# Altium footprint library 191015 Integrated DED Equipment.PcbLib: 25 footprints (part 1 of 2)
Each footprint in its own frame and in the unit in brackets; x right, y up, seen from the top. Pads: shape width x height; smd on the part's side, far side on the other; paste and mask are expansions set on the pad; w line width, h text height; cw(c..) or ccw(c..) is an arc to the next point about the centre after c.
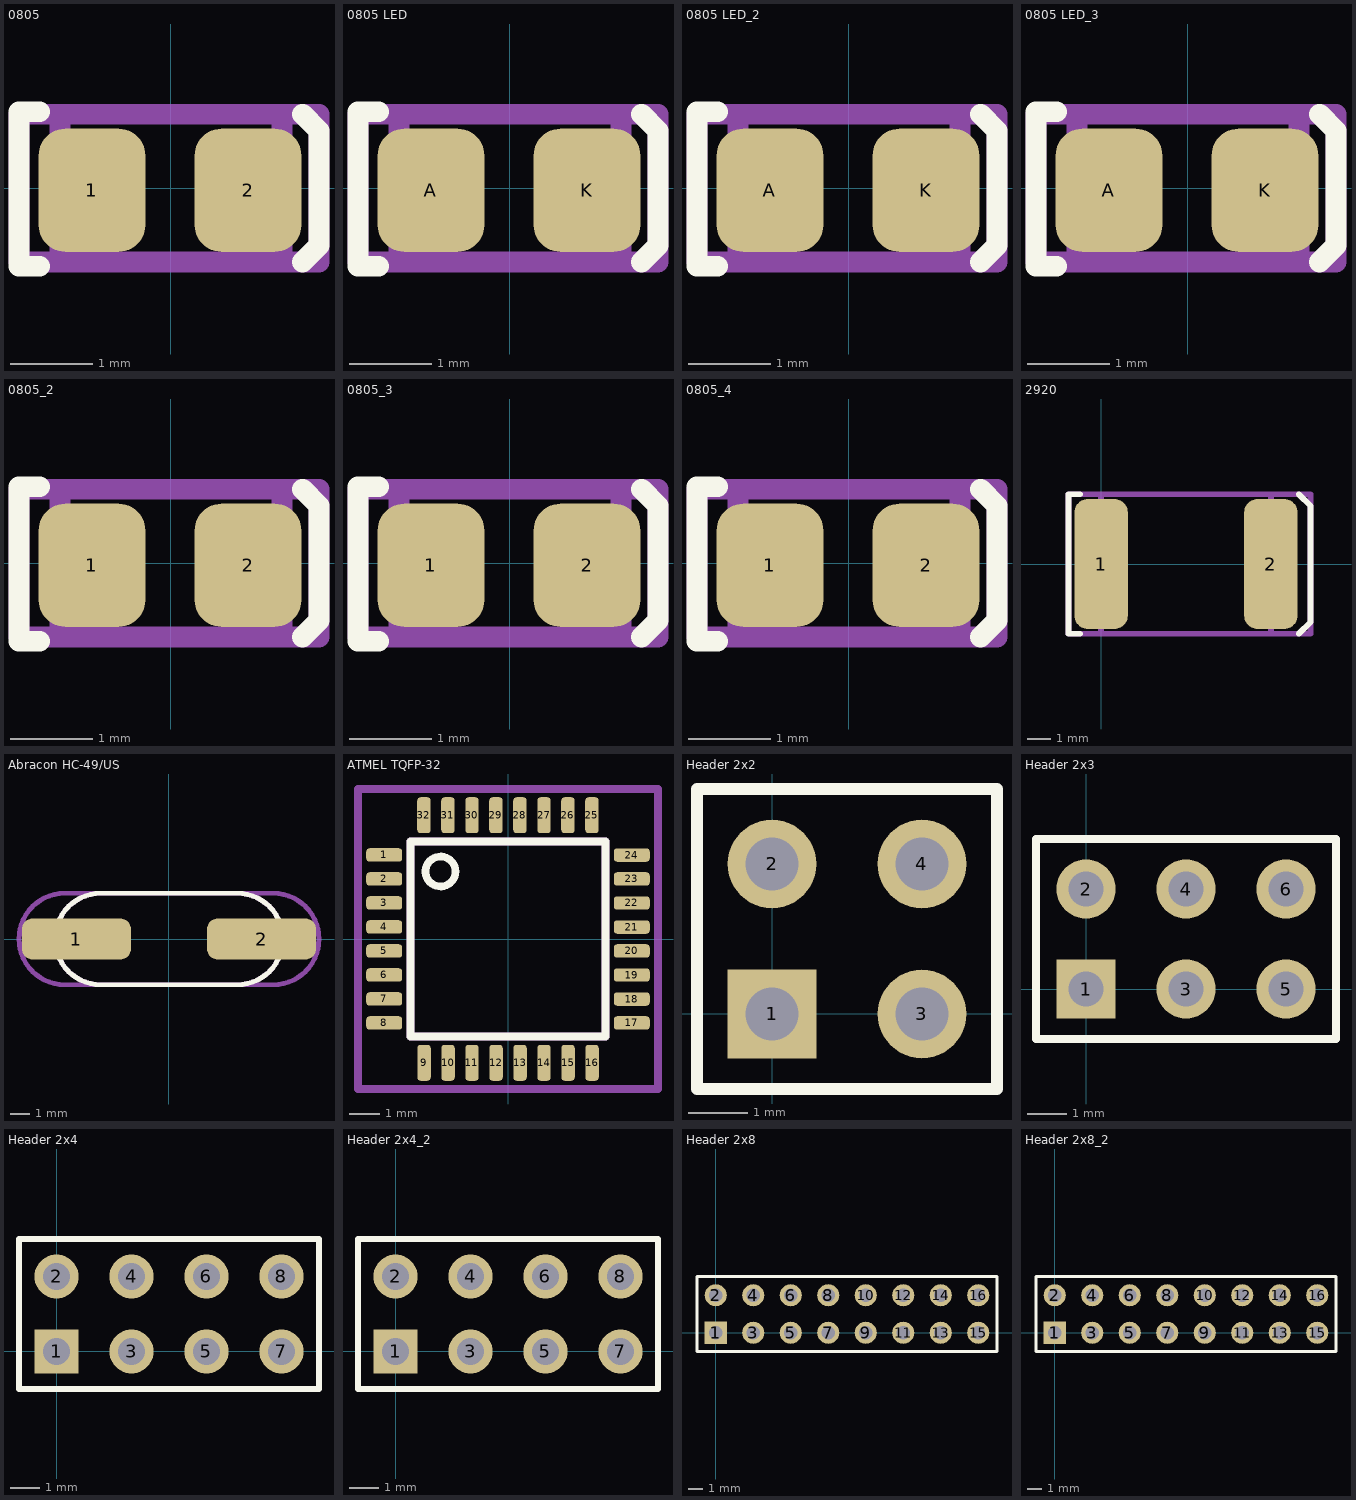
[diagram p0: the footprints below, top view; thin cyan lines are the x and y axes]

## 0805 [mm]
pads (2):
  rrect50% 1.3x1.5 smd: 1(-0.962,-0.026) 2(0.938,-0.026)
Top Overlay:
  lines w0.254: -1.6,-0.95 -1.85,-0.95 -1.85,0.929 -1.6,0.929 ; 1.6,-0.9 1.802,-0.698 1.802,0.698 1.6,0.9
Mechanical 13:
  lines w0.254: -1.35,-0.9 -1.35,0.9 1.35,0.9 1.35,-0.9 -1.35,-0.9
Mechanical 15:
  lines w0.254: -1.85,-0.9 1.8,-0.9 1.8,0.9 -1.85,0.9 -1.85,-0.9
3D body "0805.step": height 0.73, standoff -0.03, extent -1,-0.655 1,0.655

## 0805 LED [mm]
pads (2):
  rrect50% 1.3x1.5 smd: A(-0.962,-0.026) K(0.938,-0.026)
Top Overlay:
  lines w0.254: -1.6,-0.95 -1.85,-0.95 -1.85,0.929 -1.6,0.929 ; 1.6,-0.9 1.802,-0.698 1.802,0.698 1.6,0.9
Mechanical 13:
  lines w0.254: -1.35,-0.9 1.35,-0.9 1.35,0.9 -1.35,0.9 -1.35,-0.9
Mechanical 15:
  lines w0.254: -1.85,-0.9 -1.85,0.9 1.8,0.9 1.8,-0.9 -1.85,-0.9
3D body "LED SMD 0805.step": height 1, standoff 0, extent -1.1,-0.625 0.9,0.625

## 0805 LED_2 [mm]
pads (2):
  rrect50% 1.3x1.5 smd: A(-0.962,-0.026) K(0.938,-0.026)
Top Overlay:
  lines w0.254: -1.6,-0.95 -1.85,-0.95 -1.85,0.929 -1.6,0.929 ; 1.6,-0.9 1.802,-0.698 1.802,0.698 1.6,0.9
Mechanical 13:
  lines w0.254: -1.35,-0.9 -1.35,0.9 1.35,0.9 1.35,-0.9 -1.35,-0.9
Mechanical 15:
  lines w0.254: -1.85,-0.9 1.8,-0.9 1.8,0.9 -1.85,0.9 -1.85,-0.9
3D body "LED SMD 0805.step": height 1, standoff 0, extent -1.1,-0.625 0.9,0.625

## 0805 LED_3 [mm]
pads (2):
  rrect50% 1.3x1.5 smd: A(-0.962,-0.026) K(0.938,-0.026)
Top Overlay:
  lines w0.254: -1.6,-0.95 -1.85,-0.95 -1.85,0.929 -1.6,0.929 ; 1.6,-0.9 1.802,-0.698 1.802,0.698 1.6,0.9
Mechanical 13:
  lines w0.254: -1.35,-0.9 -1.35,0.9 1.35,0.9 1.35,-0.9 -1.35,-0.9
Mechanical 15:
  lines w0.254: -1.85,-0.9 1.8,-0.9 1.8,0.9 -1.85,0.9 -1.85,-0.9
3D body "LED SMD 0805.step": height 1, standoff 0, extent -1.1,-0.625 0.9,0.625

## 0805_2 [mm]
pads (2):
  rrect50% 1.3x1.5 smd: 1(-0.962,-0.026) 2(0.938,-0.026)
Top Overlay:
  lines w0.254: -1.6,-0.95 -1.85,-0.95 -1.85,0.929 -1.6,0.929 ; 1.6,-0.9 1.802,-0.698 1.802,0.698 1.6,0.9
Mechanical 13:
  lines w0.254: -1.35,-0.9 -1.35,0.9 1.35,0.9 1.35,-0.9 -1.35,-0.9
Mechanical 15:
  lines w0.254: -1.85,-0.9 1.8,-0.9 1.8,0.9 -1.85,0.9 -1.85,-0.9
3D body "0805.step": height 0.73, standoff -0.03, extent -1,-0.655 1,0.655

## 0805_3 [mm]
pads (2):
  rrect50% 1.3x1.5 smd: 1(-0.962,-0.026) 2(0.938,-0.026)
Top Overlay:
  lines w0.254: -1.6,-0.95 -1.85,-0.95 -1.85,0.929 -1.6,0.929 ; 1.6,-0.9 1.802,-0.698 1.802,0.698 1.6,0.9
Mechanical 13:
  lines w0.254: -1.35,-0.9 1.35,-0.9 1.35,0.9 -1.35,0.9 -1.35,-0.9
Mechanical 15:
  lines w0.254: -1.85,-0.9 -1.85,0.9 1.8,0.9 1.8,-0.9 -1.85,-0.9
3D body "0805.step": height 0.73, standoff -0.03, extent -1,-0.655 1,0.655

## 0805_4 [mm]
pads (2):
  rrect50% 1.3x1.5 smd: 1(-0.962,-0.026) 2(0.938,-0.026)
Top Overlay:
  lines w0.254: -1.6,-0.95 -1.85,-0.95 -1.85,0.929 -1.6,0.929 ; 1.6,-0.9 1.802,-0.698 1.802,0.698 1.6,0.9
Mechanical 13:
  lines w0.254: -1.35,-0.9 1.35,-0.9 1.35,0.9 -1.35,0.9 -1.35,-0.9
Mechanical 15:
  lines w0.254: -1.85,-0.9 -1.85,0.9 1.8,0.9 1.8,-0.9 -1.85,-0.9
3D body "0805.step": height 0.73, standoff -0.03, extent -1,-0.655 1,0.655

## 2920 [mm]
pads (2):
  rrect50% 2.3x5.6 smd: 1(0,0) 2(7.3,0)
Top Overlay:
  lines w0.254: -0.9,-3 -1.4,-3 -1.4,3 -0.9,3 ; 8.5,-3 9,-2.5 9,2.5 8.5,3
Mechanical 13:
  lines w0.254: 0,-3 0,3 7.3,3 7.3,-3 0,-3
Mechanical 15:
  lines w0.254: -1.4,-3 -1.4,3 9,3 9,-3 -1.4,-3
3D body "0ZCF.step": height 1.14, standoff 0, extent -0.338,-2.807 7.638,2.807

## Abracon HC-49/US [mm]
pads (2):
  rrect50% 5.6x2.1 smd: 1(-4.75,0) 2(4.75,0)
Top Overlay:
  lines w0.254: -3.526,-2.349 3.526,-2.349 ; -3.5,-2.349 cw(c-3.5,0) -3.5,2.349 3.5,2.35 cw(c3.5,0) 3.5,-2.349
Mechanical 13:
  lines w0.254: -3.526,-2.349 3.526,-2.349 ; -3.5,-2.349 cw(c-3.5,0) -3.5,2.349 3.5,2.35 cw(c3.5,0) 3.5,-2.349
Mechanical 15:
  lines w0.254: -5.35,-2.349 cw(c-5.35,0) -5.35,2.35 5.35,2.35 cw(c5.35,0) 5.35,-2.349 -5.35,-2.349
3D body "ABLS.STEP": height 4.06, standoff -0.1, extent -6.35,-2.349 6.35,2.35

## ATMEL TQFP-32 [mm]
pads (32):
  rrect50% 1.2x0.45 smd: 1(-4.125,2.8) 2(-4.125,2) 3(-4.125,1.2) 4(-4.125,0.4) 5(-4.125,-0.4) 6(-4.125,-1.2) 7(-4.125,-2) 8(-4.125,-2.8) 17(4.125,-2.8) 18(4.125,-2) 19(4.125,-1.2) 20(4.125,-0.4) 21(4.125,0.4) 22(4.125,1.2) 23(4.125,2) 24(4.125,2.8)
  rrect50% 0.45x1.2 smd: 9(-2.8,-4.125) 10(-2,-4.125) 11(-1.2,-4.125) 12(-0.4,-4.125) 13(0.4,-4.125) 14(1.2,-4.125) 15(2,-4.125) 16(2.8,-4.125) 25(2.8,4.125) 26(2,4.125) 27(1.2,4.125) 28(0.4,4.125) 29(-0.4,4.125) 30(-1.2,4.125) 31(-2,4.125) 32(-2.8,4.125)
Top Overlay:
  circle w0.254: c-2.25,2.25 r0.5
  lines w0.254: -3.25,-3.25 -3.25,3.25 3.25,3.25 3.25,-3.25 -3.25,-3.25
Mechanical 13:
  lines w0.254: -3.25,-3.25 3.25,-3.25 3.25,3.25 -3.25,3.25 -3.25,-3.25
Mechanical 15:
  lines w0.254: -5,-5 5,-5 5,5 -5,5 -5,-5
3D body "TQFP-32.STEP": height 1.1, standoff 0, extent -4.5,-4.5 4.5,4.5

## Header 2x2 [mm]
pads (4):
  rect 1.5x1.5 hole 0.9: 1(0,0)
  round 1.5 hole 0.9: 2(0,2.54) 3(2.54,0) 4(2.54,2.54)
Top Overlay:
  lines w0.2: -1.27,-1.27 -1.27,3.81 3.81,3.81 3.81,-1.27 -1.27,-1.27

## Header 2x3 [mm]
pads (6):
  rect 1.5x1.5 hole 0.9: 1(0,0)
  round 1.5 hole 0.9: 2(0,2.54) 3(2.54,0) 4(2.54,2.54) 5(5.08,0) 6(5.08,2.54)
Top Overlay:
  lines w0.2: 1.482,-1.27 6.35,-1.27 ; 6.35,-1.27 6.35,3.81 -1.27,3.81 -1.27,-1.27 6.35,-1.27

## Header 2x4 [mm]
pads (8):
  rect 1.5x1.5 hole 0.9: 1(0,0)
  round 1.5 hole 0.9: 2(0,2.54) 3(2.54,0) 4(2.54,2.54) 5(5.08,0) 6(5.08,2.54) 7(7.62,0) 8(7.62,2.54)
Top Overlay:
  lines w0.2: -1.27,-1.27 -1.27,3.81 8.89,3.81 8.89,-1.27 -1.27,-1.27

## Header 2x4_2 [mm]
pads (8):
  rect 1.5x1.5 hole 0.9: 1(0,0)
  round 1.5 hole 0.9: 2(0,2.54) 3(2.54,0) 4(2.54,2.54) 5(5.08,0) 6(5.08,2.54) 7(7.62,0) 8(7.62,2.54)
Top Overlay:
  lines w0.2: -1.27,-1.27 -1.27,3.81 8.89,3.81 8.89,-1.27 -1.27,-1.27

## Header 2x8 [mm]
pads (16):
  rect 1.5x1.5 hole 0.9: 1(0,0)
  round 1.5 hole 0.9: 2(0,2.54) 3(2.54,0) 4(2.54,2.54) 5(5.08,0) 6(5.08,2.54) 7(7.62,0) 8(7.62,2.54) 9(10.16,0) 10(10.16,2.54) 11(12.7,0) 12(12.7,2.54) 13(15.24,0) 14(15.24,2.54) 15(17.78,0) 16(17.78,2.54)
Top Overlay:
  lines w0.2: -1.27,-1.27 19.05,-1.27 19.05,3.81 -1.27,3.81 -1.27,-1.27

## Header 2x8_2 [mm]
pads (16):
  rect 1.5x1.5 hole 0.9: 1(0,0)
  round 1.5 hole 0.9: 2(0,2.54) 3(2.54,0) 4(2.54,2.54) 5(5.08,0) 6(5.08,2.54) 7(7.62,0) 8(7.62,2.54) 9(10.16,0) 10(10.16,2.54) 11(12.7,0) 12(12.7,2.54) 13(15.24,0) 14(15.24,2.54) 15(17.78,0) 16(17.78,2.54)
Top Overlay:
  lines w0.2: -1.27,-1.27 19.05,-1.27 19.05,3.81 -1.27,3.81 -1.27,-1.27